# Altium schematic symbol library WR-BHD.SchLib: 220 symbols (part 1 of 5)
Pins are listed as number, name and electrical type; pins without a type are passive.

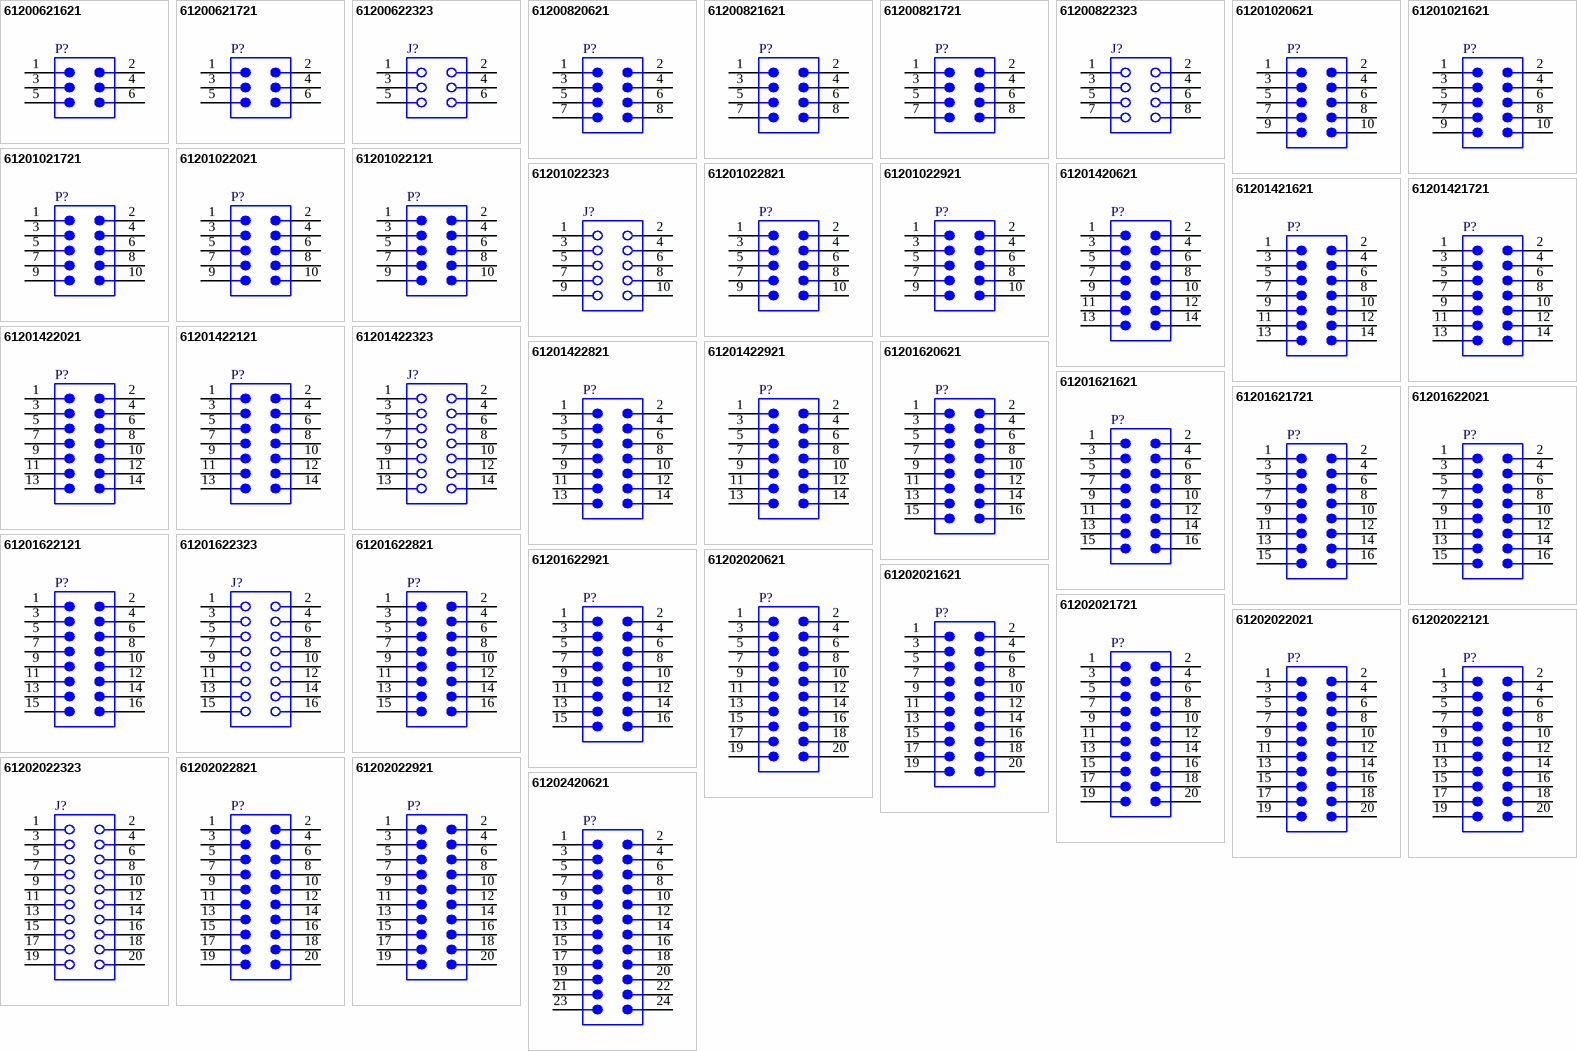
[diagram p0: symbols 61200621621 to 61202420621]

## 61200621621
designator P?  (value not drawn)
WR-BHD Male Box Header, THT Straight, pitch 2.54 mm, 2 Rows, 6 Pins; Manufacturer: Wurth Elektronik; Contact Resistance: 20 mΩ; Insulation Resistance: 1000 MΩ; Pitch: 2.54 mm; Rated Current: 3 A; Working Voltage: 250 V; Withstanding Voltage: 500 V; Manufacturer Part Number: 61200621621; Category: Wire-to-Board Connector; Connectors.Match Code: WR-BHD; ComponentLink1Description: Website Link; ComponentLink1URL: https://www.we-online.com/redexpert/article/61200621621?ad; ComponentLink2Description: Datasheet Link; ComponentLink2URL: https://www.we-online.com/redexpert/spec/61200621621?ad; Mount: Through Hole; Min Operating Temperature: -40 °C; Max Operating Temperature: 105 °C; Packaging: Tray; Length: 15.28 mm; Width: 9.1 mm; Height: 9.1 mm; Gender: Male; Number of Pins: 6; Number of Rows: 2; Orientation: Straight
footprint 61200621621
pins: 1, 2, 3, 4, 5, 6

## 61200621721
designator P?  (value not drawn)
WR-BHD Male Box Header, THT Right Angle, pitch 2.54 mm, 2 Rows, 6 Pins; Manufacturer: Wurth Elektronik; Contact Resistance: 20 mΩ; Insulation Resistance: 1000 MΩ; Pitch: 2.54 mm; Rated Current: 3 A; Working Voltage: 250 V; Withstanding Voltage: 500 V; Manufacturer Part Number: 61200621721; Category: Wire-to-Board Connector; Connectors.Match Code: WR-BHD; ComponentLink1Description: Website Link; ComponentLink1URL: https://www.we-online.com/redexpert/article/61200621721?ad; ComponentLink2Description: Datasheet Link; ComponentLink2URL: https://www.we-online.com/redexpert/spec/61200621721?ad; Mount: Through Hole; Min Operating Temperature: -40 °C; Max Operating Temperature: 105 °C; Packaging: Tray; Length: 15.28 mm; Width: 13.23 mm; Height: 9.1 mm; Gender: Male; Number of Pins: 6; Number of Rows: 2; Orientation: Right Angle
footprint 61200621721
pins: 1, 2, 3, 4, 5, 6

## 61200622323
designator J?  (value not drawn)
WR-BHD Female Box Header, THT Straight, pitch 2.54 mm, 2 Rows, 6 Pins; Manufacturer: Wurth Elektronik; Contact Resistance: 20 mΩ; Insulation Resistance: 1000 MΩ; Pitch: 2.54 mm; Rated Current: 1 A; Working Voltage: 250 V; Withstanding Voltage: 500 V; Manufacturer Part Number: 61200622323; Category: Wire-to-Board Connector; Connectors.Match Code: WR-BHD; ComponentLink1Description: Website Link; ComponentLink1URL: https://www.we-online.com/redexpert/article/61200622323?ad; ComponentLink2Description: Datasheet Link; ComponentLink2URL: https://www.we-online.com/redexpert/spec/61200622323?ad; Mount: Through Hole; Min Operating Temperature: -40 °C; Max Operating Temperature: 105 °C; Packaging: Tray; Length: 13.07 mm; Width: 6 mm; Height: 7.3 mm; Gender: Female; Number of Pins: 6; Number of Rows: 2; Orientation: Straight
footprint 61200622323
pins: 1, 2, 3, 4, 5, 6

## 61200820621
designator P?  (value not drawn)
WR-BHD Male Box Header, SMT Straight, pitch 2.54 mm, 2 Rows, 8 Pins; Manufacturer: Wurth Elektronik; Contact Resistance: 20 mΩ; Insulation Resistance: 1000 MΩ; Pitch: 2.54 mm; Rated Current: 3 A; Working Voltage: 250 V; Withstanding Voltage: 500 V; Manufacturer Part Number: 61200820621; Category: Wire-to-Board Connector; Connectors.Match Code: WR-BHD; ComponentLink1Description: Website Link; ComponentLink1URL: https://www.we-online.com/redexpert/article/61200820621?ad; ComponentLink2Description: Datasheet Link; ComponentLink2URL: https://www.we-online.com/redexpert/spec/61200820621?ad; Mount: Surface Mount; Min Operating Temperature: -40 °C; Max Operating Temperature: 125 °C; Packaging: Tube; Length: 17.66 mm; Width: 8.8 mm; Height: 9.1 mm; Gender: Male; Number of Pins: 8; Number of Rows: 2; Orientation: Straight
footprint 61200820621
pins: 1, 2, 3, 4, 5, 6, 7, 8

## 61200821621
designator P?  (value not drawn)
WR-BHD Male Box Header, THT Straight, pitch 2.54 mm, 2 Rows, 8 Pins; Manufacturer: Wurth Elektronik; Contact Resistance: 20 mΩ; Insulation Resistance: 1000 MΩ; Pitch: 2.54 mm; Rated Current: 3 A; Working Voltage: 250 V; Withstanding Voltage: 500 V; Manufacturer Part Number: 61200821621; Category: Wire-to-Board Connector; Connectors.Match Code: WR-BHD; ComponentLink1Description: Website Link; ComponentLink1URL: https://www.we-online.com/redexpert/article/61200821621?ad; ComponentLink2Description: Datasheet Link; ComponentLink2URL: https://www.we-online.com/redexpert/spec/61200821621?ad; Mount: Through Hole; Min Operating Temperature: -40 °C; Max Operating Temperature: 105 °C; Packaging: Tray; Length: 17.82 mm; Width: 9.1 mm; Height: 9.1 mm; Gender: Male; Number of Pins: 8; Number of Rows: 2; Orientation: Straight
footprint 61200821621
pins: 1, 2, 3, 4, 5, 6, 7, 8

## 61200821721
designator P?  (value not drawn)
WR-BHD Male Box Header, THT Right Angle, pitch 2.54 mm, 2 Rows, 8 Pins; Manufacturer: Wurth Elektronik; Contact Resistance: 20 mΩ; Insulation Resistance: 1000 MΩ; Pitch: 2.54 mm; Rated Current: 3 A; Working Voltage: 250 V; Withstanding Voltage: 500 V; Manufacturer Part Number: 61200821721; Category: Wire-to-Board Connector; Connectors.Match Code: WR-BHD; ComponentLink1Description: Website Link; ComponentLink1URL: https://www.we-online.com/redexpert/article/61200821721?ad; ComponentLink2Description: Datasheet Link; ComponentLink2URL: https://www.we-online.com/redexpert/spec/61200821721?ad; Mount: Through Hole; Min Operating Temperature: -40 °C; Max Operating Temperature: 105 °C; Packaging: Tray; Length: 17.82 mm; Width: 13.23 mm; Height: 9.1 mm; Gender: Male; Number of Pins: 8; Number of Rows: 2; Orientation: Right Angle
footprint 61200821721
pins: 1, 2, 3, 4, 5, 6, 7, 8

## 61200822323
designator J?  (value not drawn)
WR-BHD Female Box Header, THT Straight, pitch 2.54 mm, 2 Rows, 8 Pins; Manufacturer: Wurth Elektronik; Contact Resistance: 20 mΩ; Insulation Resistance: 1000 MΩ; Pitch: 2.54 mm; Rated Current: 1 A; Working Voltage: 250 V; Withstanding Voltage: 500 V; Manufacturer Part Number: 61200822323; Category: Wire-to-Board Connector; Connectors.Match Code: WR-BHD; ComponentLink1Description: Website Link; ComponentLink1URL: https://www.we-online.com/redexpert/article/61200822323?ad; ComponentLink2Description: Datasheet Link; ComponentLink2URL: https://www.we-online.com/redexpert/spec/61200822323?ad; Mount: Through Hole; Min Operating Temperature: -40 °C; Max Operating Temperature: 105 °C; Packaging: Tray; Length: 15.61 mm; Width: 6 mm; Height: 7.3 mm; Gender: Female; Number of Pins: 8; Number of Rows: 2; Orientation: Straight
footprint 61200822323
pins: 1, 2, 3, 4, 5, 6, 7, 8

## 61201020621
designator P?  (value not drawn)
WR-BHD Male Box Header, SMT Straight, pitch 2.54 mm, 2 Rows, 10 Pins; Manufacturer: Wurth Elektronik; Contact Resistance: 20 mΩ; Insulation Resistance: 1000 MΩ; Pitch: 2.54 mm; Rated Current: 3 A; Working Voltage: 250 V; Withstanding Voltage: 500 V; Manufacturer Part Number: 61201020621; Category: Wire-to-Board Connector; Connectors.Match Code: WR-BHD; ComponentLink1Description: Website Link; ComponentLink1URL: https://www.we-online.com/redexpert/article/61201020621?ad; ComponentLink2Description: Datasheet Link; ComponentLink2URL: https://www.we-online.com/redexpert/spec/61201020621?ad; Mount: Surface Mount; Min Operating Temperature: -40 °C; Max Operating Temperature: 125 °C; Packaging: Tube; Length: 20.2 mm; Width: 8.8 mm; Height: 9.1 mm; Gender: Male; Number of Pins: 10; Number of Rows: 2; Orientation: Straight
footprint 61201020621
pins: 1, 2, 3, 4, 5, 6, 7, 8, 9, 10

## 61201021621
designator P?  (value not drawn)
WR-BHD Male Box Header, THT Straight, pitch 2.54 mm, 2 Rows, 10 Pins; Manufacturer: Wurth Elektronik; Contact Resistance: 20 mΩ; Insulation Resistance: 1000 MΩ; Pitch: 2.54 mm; Rated Current: 3 A; Working Voltage: 250 V; Withstanding Voltage: 500 V; Manufacturer Part Number: 61201021621; Category: Wire-to-Board Connector; Connectors.Match Code: WR-BHD; ComponentLink1Description: Website Link; ComponentLink1URL: https://www.we-online.com/redexpert/article/61201021621?ad; ComponentLink2Description: Datasheet Link; ComponentLink2URL: https://www.we-online.com/redexpert/spec/61201021621?ad; Mount: Through Hole; Min Operating Temperature: -40 °C; Max Operating Temperature: 105 °C; Packaging: Tray; Length: 20.36 mm; Width: 9.1 mm; Height: 9.1 mm; Gender: Male; Number of Pins: 10; Number of Rows: 2; Orientation: Straight
footprint 61201021621
pins: 1, 2, 3, 4, 5, 6, 7, 8, 9, 10

## 61201021721
designator P?  (value not drawn)
WR-BHD Male Box Header, THT Right Angle, pitch 2.54 mm, 2 Rows, 10 Pins; Manufacturer: Wurth Elektronik; Contact Resistance: 20 mΩ; Insulation Resistance: 1000 MΩ; Pitch: 2.54 mm; Rated Current: 3 A; Working Voltage: 250 V; Withstanding Voltage: 500 V; Manufacturer Part Number: 61201021721; Category: Wire-to-Board Connector; Connectors.Match Code: WR-BHD; ComponentLink1Description: Website Link; ComponentLink1URL: https://www.we-online.com/redexpert/article/61201021721?ad; ComponentLink2Description: Datasheet Link; ComponentLink2URL: https://www.we-online.com/redexpert/spec/61201021721?ad; Mount: Through Hole; Min Operating Temperature: -40 °C; Max Operating Temperature: 105 °C; Packaging: Tray; Length: 20.36 mm; Width: 13.23 mm; Height: 9.1 mm; Gender: Male; Number of Pins: 10; Number of Rows: 2; Orientation: Right Angle
footprint 61201021721
pins: 1, 2, 3, 4, 5, 6, 7, 8, 9, 10

## 61201022021
designator P?  (value not drawn)
WR-BHD Male Box Header, THT Straight, pitch 2.54 mm, 2 Rows, 10 Pins; Manufacturer: Wurth Elektronik; Contact Resistance: 20 mΩ; Insulation Resistance: 1000 MΩ; Pitch: 2.54 mm; Rated Current: 3 A; Working Voltage: 250 V; Withstanding Voltage: 500 V; Manufacturer Part Number: 61201022021; Category: Wire-to-Board Connector; Connectors.Match Code: WR-BHD; ComponentLink1Description: Website Link; ComponentLink1URL: https://www.we-online.com/redexpert/article/61201022021?ad; ComponentLink2Description: Datasheet Link; ComponentLink2URL: https://www.we-online.com/redexpert/spec/61201022021?ad; Mount: Through Hole; Min Operating Temperature: -40 °C; Max Operating Temperature: 105 °C; Packaging: Tray; Length: 32.2 mm; Width: 8.3 mm; Height: 24.5 mm; Gender: Male; Number of Pins: 10; Number of Rows: 2; Orientation: Straight
footprint 61201022021
pins: 1, 2, 3, 4, 5, 6, 7, 8, 9, 10

## 61201022121
designator P?  (value not drawn)
WR-BHD Male Box Header, THT Right Angle, pitch 2.54 mm, 2 Rows, 10 Pins; Manufacturer: Wurth Elektronik; Contact Resistance: 20 mΩ; Insulation Resistance: 1000 MΩ; Pitch: 2.54 mm; Rated Current: 3 A; Working Voltage: 250 V; Withstanding Voltage: 500 V; Manufacturer Part Number: 61201022121; Category: Wire-to-Board Connector; Connectors.Match Code: WR-BHD; ComponentLink1Description: Website Link; ComponentLink1URL: https://www.we-online.com/redexpert/article/61201022121?ad; ComponentLink2Description: Datasheet Link; ComponentLink2URL: https://www.we-online.com/redexpert/spec/61201022121?ad; Mount: Through Hole; Min Operating Temperature: -40 °C; Max Operating Temperature: 105 °C; Packaging: Tray; Length: 32.2 mm; Width: 24.5 mm; Height: 8.3 mm; Gender: Male; Number of Pins: 10; Number of Rows: 2; Orientation: Right Angle
footprint 61201022121
pins: 1, 2, 3, 4, 5, 6, 7, 8, 9, 10

## 61201022323
designator J?  (value not drawn)
WR-BHD Female Box Header, THT Straight, pitch 2.54 mm, 2 Rows, 10 Pins; Manufacturer: Wurth Elektronik; Contact Resistance: 20 mΩ; Insulation Resistance: 1000 MΩ; Pitch: 2.54 mm; Rated Current: 1 A; Working Voltage: 250 V; Withstanding Voltage: 500 V; Manufacturer Part Number: 61201022323; Category: Wire-to-Board Connector; Connectors.Match Code: WR-BHD; ComponentLink1Description: Website Link; ComponentLink1URL: https://www.we-online.com/redexpert/article/61201022323?ad; ComponentLink2Description: Datasheet Link; ComponentLink2URL: https://www.we-online.com/redexpert/spec/61201022323?ad; Mount: Through Hole; Min Operating Temperature: -40 °C; Max Operating Temperature: 105 °C; Packaging: Tray; Length: 18.15 mm; Width: 6 mm; Height: 7.3 mm; Gender: Female; Number of Pins: 10; Number of Rows: 2; Orientation: Straight
footprint 61201022323
pins: 1, 2, 3, 4, 5, 6, 7, 8, 9, 10

## 61201022821
designator P?  (value not drawn)
WR-BHD Male Box Header, THT Straight, pitch 2.54 mm, 2 Rows, 10 Pins; Manufacturer: Wurth Elektronik; Contact Resistance: 20 mΩ; Insulation Resistance: 1000 MΩ; Pitch: 2.54 mm; Rated Current: 3 A; Working Voltage: 250 V; Withstanding Voltage: 500 V; Manufacturer Part Number: 61201022821; Category: Wire-to-Board Connector; Connectors.Match Code: WR-BHD; ComponentLink1Description: Website Link; ComponentLink1URL: https://www.we-online.com/redexpert/article/61201022821?ad; ComponentLink2Description: Datasheet Link; ComponentLink2URL: https://www.we-online.com/redexpert/spec/61201022821?ad; Mount: Through Hole; Min Operating Temperature: -40 °C; Max Operating Temperature: 105 °C; Packaging: Tray; Length: 32.2 mm; Width: 8.3 mm; Height: 27.8 mm; Gender: Male; Number of Pins: 10; Number of Rows: 2; Orientation: Straight
footprint 61201022821
pins: 1, 2, 3, 4, 5, 6, 7, 8, 9, 10

## 61201022921
designator P?  (value not drawn)
WR-BHD Male Box Header, THT Right Angle, pitch 2.54 mm, 2 Rows, 10 Pins; Manufacturer: Wurth Elektronik; Contact Resistance: 20 mΩ; Insulation Resistance: 1000 MΩ; Pitch: 2.54 mm; Rated Current: 3 A; Working Voltage: 250 V; Withstanding Voltage: 500 V; Manufacturer Part Number: 61201022921; Category: Wire-to-Board Connector; Connectors.Match Code: WR-BHD; ComponentLink1Description: Website Link; ComponentLink1URL: https://www.we-online.com/redexpert/article/61201022921?ad; ComponentLink2Description: Datasheet Link; ComponentLink2URL: https://www.we-online.com/redexpert/spec/61201022921?ad; Mount: Through Hole; Min Operating Temperature: -40 °C; Max Operating Temperature: 105 °C; Packaging: Tray; Length: 32.2 mm; Width: 27.8 mm; Height: 8.3 mm; Gender: Male; Number of Pins: 10; Number of Rows: 2; Orientation: Right Angle
footprint 61201022921
pins: 1, 2, 3, 4, 5, 6, 7, 8, 9, 10

## 61201420621
designator P?  (value not drawn)
WR-BHD Male Box Header, SMT Straight, pitch 2.54 mm, 2 Rows, 14 Pins; Manufacturer: Wurth Elektronik; Contact Resistance: 20 mΩ; Insulation Resistance: 1000 MΩ; Pitch: 2.54 mm; Rated Current: 3 A; Working Voltage: 250 V; Withstanding Voltage: 500 V; Manufacturer Part Number: 61201420621; Category: Wire-to-Board Connector; Connectors.Match Code: WR-BHD; ComponentLink1Description: Website Link; ComponentLink1URL: https://www.we-online.com/redexpert/article/61201420621?ad; ComponentLink2Description: Datasheet Link; ComponentLink2URL: https://www.we-online.com/redexpert/spec/61201420621?ad; Mount: Surface Mount; Min Operating Temperature: -40 °C; Max Operating Temperature: 125 °C; Packaging: Tube; Length: 25.28 mm; Width: 8.8 mm; Height: 9.1 mm; Gender: Male; Number of Pins: 14; Number of Rows: 2; Orientation: Straight
footprint 61201420621
pins: 1, 2, 3, 4, 5, 6, 7, 8, 9, 10, 11, 12, 13, 14

## 61201421621
designator P?  (value not drawn)
WR-BHD Male Box Header, THT Straight, pitch 2.54 mm, 2 Rows, 14 Pins; Manufacturer: Wurth Elektronik; Contact Resistance: 20 mΩ; Insulation Resistance: 1000 MΩ; Pitch: 2.54 mm; Rated Current: 3 A; Working Voltage: 250 V; Withstanding Voltage: 500 V; Manufacturer Part Number: 61201421621; Category: Wire-to-Board Connector; Connectors.Match Code: WR-BHD; ComponentLink1Description: Website Link; ComponentLink1URL: https://www.we-online.com/redexpert/article/61201421621?ad; ComponentLink2Description: Datasheet Link; ComponentLink2URL: https://www.we-online.com/redexpert/spec/61201421621?ad; Mount: Through Hole; Min Operating Temperature: -40 °C; Max Operating Temperature: 105 °C; Packaging: Tray; Length: 25.44 mm; Width: 9.1 mm; Height: 9.1 mm; Gender: Male; Number of Pins: 14; Number of Rows: 2; Orientation: Straight
footprint 61201421621
pins: 1, 2, 3, 4, 5, 6, 7, 8, 9, 10, 11, 12, 13, 14

## 61201421721
designator P?  (value not drawn)
WR-BHD Male Box Header, THT Right Angle, pitch 2.54 mm, 2 Rows, 14 Pins; Manufacturer: Wurth Elektronik; Contact Resistance: 20 mΩ; Insulation Resistance: 1000 MΩ; Pitch: 2.54 mm; Rated Current: 3 A; Working Voltage: 250 V; Withstanding Voltage: 500 V; Manufacturer Part Number: 61201421721; Category: Wire-to-Board Connector; Connectors.Match Code: WR-BHD; ComponentLink1Description: Website Link; ComponentLink1URL: https://www.we-online.com/redexpert/article/61201421721?ad; ComponentLink2Description: Datasheet Link; ComponentLink2URL: https://www.we-online.com/redexpert/spec/61201421721?ad; Mount: Through Hole; Min Operating Temperature: -40 °C; Max Operating Temperature: 105 °C; Packaging: Tray; Length: 25.44 mm; Width: 13.23 mm; Height: 9.1 mm; Gender: Male; Number of Pins: 14; Number of Rows: 2; Orientation: Right Angle
footprint 61201421721
pins: 1, 2, 3, 4, 5, 6, 7, 8, 9, 10, 11, 12, 13, 14

## 61201422021
designator P?  (value not drawn)
WR-BHD Male Box Header, THT Straight, pitch 2.54 mm, 2 Rows, 14 Pins; Manufacturer: Wurth Elektronik; Contact Resistance: 20 mΩ; Insulation Resistance: 1000 MΩ; Pitch: 2.54 mm; Rated Current: 3 A; Working Voltage: 250 V; Withstanding Voltage: 500 V; Manufacturer Part Number: 61201422021; Category: Wire-to-Board Connector; Connectors.Match Code: WR-BHD; ComponentLink1Description: Website Link; ComponentLink1URL: https://www.we-online.com/redexpert/article/61201422021?ad; ComponentLink2Description: Datasheet Link; ComponentLink2URL: https://www.we-online.com/redexpert/spec/61201422021?ad; Mount: Through Hole; Min Operating Temperature: -40 °C; Max Operating Temperature: 105 °C; Packaging: Tray; Length: 37.28 mm; Width: 8.3 mm; Height: 24.5 mm; Gender: Male; Number of Pins: 14; Number of Rows: 2; Orientation: Straight
footprint 61201422021
pins: 1, 2, 3, 4, 5, 6, 7, 8, 9, 10, 11, 12, 13, 14

## 61201422121
designator P?  (value not drawn)
WR-BHD Male Box Header, THT Right Angle, pitch 2.54 mm, 2 Rows, 14 Pins; Manufacturer: Wurth Elektronik; Contact Resistance: 20 mΩ; Insulation Resistance: 1000 MΩ; Pitch: 2.54 mm; Rated Current: 3 A; Working Voltage: 250 V; Withstanding Voltage: 500 V; Manufacturer Part Number: 61201422121; Category: Wire-to-Board Connector; Connectors.Match Code: WR-BHD; ComponentLink1Description: Website Link; ComponentLink1URL: https://www.we-online.com/redexpert/article/61201422121?ad; ComponentLink2Description: Datasheet Link; ComponentLink2URL: https://www.we-online.com/redexpert/spec/61201422121?ad; Mount: Through Hole; Min Operating Temperature: -40 °C; Max Operating Temperature: 105 °C; Packaging: Tray; Length: 37.28 mm; Width: 24.5 mm; Height: 8.3 mm; Gender: Male; Number of Pins: 14; Number of Rows: 2; Orientation: Right Angle
footprint 61201422121
pins: 1, 2, 3, 4, 5, 6, 7, 8, 9, 10, 11, 12, 13, 14

## 61201422323
designator J?  (value not drawn)
WR-BHD Female Box Header, THT Straight, pitch 2.54 mm, 2 Rows, 14 Pins; Manufacturer: Wurth Elektronik; Contact Resistance: 20 mΩ; Insulation Resistance: 1000 MΩ; Pitch: 2.54 mm; Rated Current: 1 A; Working Voltage: 250 V; Withstanding Voltage: 500 V; Manufacturer Part Number: 61201422323; Category: Wire-to-Board Connector; Connectors.Match Code: WR-BHD; ComponentLink1Description: Website Link; ComponentLink1URL: https://www.we-online.com/redexpert/article/61201422323?ad; ComponentLink2Description: Datasheet Link; ComponentLink2URL: https://www.we-online.com/redexpert/spec/61201422323?ad; Mount: Through Hole; Min Operating Temperature: -40 °C; Max Operating Temperature: 105 °C; Packaging: Tray; Length: 23.23 mm; Width: 6 mm; Height: 7.3 mm; Gender: Female; Number of Pins: 14; Number of Rows: 2; Orientation: Straight
footprint 61201422323
pins: 1, 2, 3, 4, 5, 6, 7, 8, 9, 10, 11, 12, 13, 14

## 61201422821
designator P?  (value not drawn)
WR-BHD Male Box Header, THT Straight, pitch 2.54 mm, 2 Rows, 14 Pins; Manufacturer: Wurth Elektronik; Contact Resistance: 20 mΩ; Insulation Resistance: 1000 MΩ; Pitch: 2.54 mm; Rated Current: 3 A; Working Voltage: 250 V; Withstanding Voltage: 500 V; Manufacturer Part Number: 61201422821; Category: Wire-to-Board Connector; Connectors.Match Code: WR-BHD; ComponentLink1Description: Website Link; ComponentLink1URL: https://www.we-online.com/redexpert/article/61201422821?ad; ComponentLink2Description: Datasheet Link; ComponentLink2URL: https://www.we-online.com/redexpert/spec/61201422821?ad; Mount: Through Hole; Min Operating Temperature: -40 °C; Max Operating Temperature: 105 °C; Packaging: Tray; Length: 37.28 mm; Width: 8.3 mm; Height: 27.8 mm; Gender: Male; Number of Pins: 14; Number of Rows: 2; Orientation: Straight
footprint 61201422821
pins: 1, 2, 3, 4, 5, 6, 7, 8, 9, 10, 11, 12, 13, 14

## 61201422921
designator P?  (value not drawn)
WR-BHD Male Box Header, THT Right Angle, pitch 2.54 mm, 2 Rows, 14 Pins; Manufacturer: Wurth Elektronik; Contact Resistance: 20 mΩ; Insulation Resistance: 1000 MΩ; Pitch: 2.54 mm; Rated Current: 3 A; Working Voltage: 250 V; Withstanding Voltage: 500 V; Manufacturer Part Number: 61201422921; Category: Wire-to-Board Connector; Connectors.Match Code: WR-BHD; ComponentLink1Description: Website Link; ComponentLink1URL: https://www.we-online.com/redexpert/article/61201422921?ad; ComponentLink2Description: Datasheet Link; ComponentLink2URL: https://www.we-online.com/redexpert/spec/61201422921?ad; Mount: Through Hole; Min Operating Temperature: -40 °C; Max Operating Temperature: 105 °C; Packaging: Tray; Length: 32.2 mm; Width: 27.8 mm; Height: 8.3 mm; Gender: Male; Number of Pins: 14; Number of Rows: 2; Orientation: Right Angle
footprint 61201422921
pins: 1, 2, 3, 4, 5, 6, 7, 8, 9, 10, 11, 12, 13, 14

## 61201620621
designator P?  (value not drawn)
WR-BHD Male Box Header, SMT Straight, pitch 2.54 mm, 2 Rows, 16 Pins; Manufacturer: Wurth Elektronik; Contact Resistance: 20 mΩ; Insulation Resistance: 1000 MΩ; Pitch: 2.54 mm; Rated Current: 3 A; Working Voltage: 250 V; Withstanding Voltage: 500 V; Manufacturer Part Number: 61201620621; Category: Wire-to-Board Connector; Connectors.Match Code: WR-BHD; ComponentLink1Description: Website Link; ComponentLink1URL: https://www.we-online.com/redexpert/article/61201620621?ad; ComponentLink2Description: Datasheet Link; ComponentLink2URL: https://www.we-online.com/redexpert/spec/61201620621?ad; Mount: Surface Mount; Min Operating Temperature: -40 °C; Max Operating Temperature: 125 °C; Packaging: Tube; Length: 27.82 mm; Width: 8.8 mm; Height: 9.1 mm; Gender: Male; Number of Pins: 16; Number of Rows: 2; Orientation: Straight
footprint 61201620621
pins: 1, 2, 3, 4, 5, 6, 7, 8, 9, 10, 11, 12, 13, 14, 15, 16

## 61201621621
designator P?  (value not drawn)
WR-BHD Male Box Header, THT Straight, pitch 2.54 mm, 2 Rows, 16 Pins; Manufacturer: Wurth Elektronik; Contact Resistance: 20 mΩ; Insulation Resistance: 1000 MΩ; Pitch: 2.54 mm; Rated Current: 3 A; Working Voltage: 250 V; Withstanding Voltage: 500 V; Manufacturer Part Number: 61201621621; Category: Wire-to-Board Connector; Connectors.Match Code: WR-BHD; ComponentLink1Description: Website Link; ComponentLink1URL: https://www.we-online.com/redexpert/article/61201621621?ad; ComponentLink2Description: Datasheet Link; ComponentLink2URL: https://www.we-online.com/redexpert/spec/61201621621?ad; Mount: Through Hole; Min Operating Temperature: -40 °C; Max Operating Temperature: 105 °C; Packaging: Tray; Length: 27.98 mm; Width: 9.1 mm; Height: 9.1 mm; Gender: Male; Number of Pins: 16; Number of Rows: 2; Orientation: Straight
footprint 61201621621
pins: 1, 2, 3, 4, 5, 6, 7, 8, 9, 10, 11, 12, 13, 14, 15, 16

## 61201621721
designator P?  (value not drawn)
WR-BHD Male Box Header, THT Right Angle, pitch 2.54 mm, 2 Rows, 16 Pins; Manufacturer: Wurth Elektronik; Contact Resistance: 20 mΩ; Insulation Resistance: 1000 MΩ; Pitch: 2.54 mm; Rated Current: 3 A; Working Voltage: 250 V; Withstanding Voltage: 500 V; Manufacturer Part Number: 61201621721; Category: Wire-to-Board Connector; Connectors.Match Code: WR-BHD; ComponentLink1Description: Website Link; ComponentLink1URL: https://www.we-online.com/redexpert/article/61201621721?ad; ComponentLink2Description: Datasheet Link; ComponentLink2URL: https://www.we-online.com/redexpert/spec/61201621721?ad; Mount: Through Hole; Min Operating Temperature: -40 °C; Max Operating Temperature: 105 °C; Packaging: Tray; Length: 27.98 mm; Width: 13.23 mm; Height: 9.1 mm; Gender: Male; Number of Pins: 16; Number of Rows: 2; Orientation: Right Angle
footprint 61201621721
pins: 1, 2, 3, 4, 5, 6, 7, 8, 9, 10, 11, 12, 13, 14, 15, 16

## 61201622021
designator P?  (value not drawn)
WR-BHD Male Box Header, THT Straight, pitch 2.54 mm, 2 Rows, 16 Pins; Manufacturer: Wurth Elektronik; Contact Resistance: 20 mΩ; Insulation Resistance: 1000 MΩ; Pitch: 2.54 mm; Rated Current: 3 A; Working Voltage: 250 V; Withstanding Voltage: 500 V; Manufacturer Part Number: 61201622021; Category: Wire-to-Board Connector; Connectors.Match Code: WR-BHD; ComponentLink1Description: Website Link; ComponentLink1URL: https://www.we-online.com/redexpert/article/61201622021?ad; ComponentLink2Description: Datasheet Link; ComponentLink2URL: https://www.we-online.com/redexpert/spec/61201622021?ad; Mount: Through Hole; Min Operating Temperature: -40 °C; Max Operating Temperature: 105 °C; Packaging: Tray; Length: 39.82 mm; Width: 8.3 mm; Height: 24.5 mm; Gender: Male; Number of Pins: 16; Number of Rows: 2; Orientation: Straight
footprint 61201622021
pins: 1, 2, 3, 4, 5, 6, 7, 8, 9, 10, 11, 12, 13, 14, 15, 16

## 61201622121
designator P?  (value not drawn)
WR-BHD Male Box Header, THT Right Angle, pitch 2.54 mm, 2 Rows, 16 Pins; Manufacturer: Wurth Elektronik; Contact Resistance: 20 mΩ; Insulation Resistance: 1000 MΩ; Pitch: 2.54 mm; Rated Current: 3 A; Working Voltage: 250 V; Withstanding Voltage: 500 V; Manufacturer Part Number: 61201622121; Category: Wire-to-Board Connector; Connectors.Match Code: WR-BHD; ComponentLink1Description: Website Link; ComponentLink1URL: https://www.we-online.com/redexpert/article/61201622121?ad; ComponentLink2Description: Datasheet Link; ComponentLink2URL: https://www.we-online.com/redexpert/spec/61201622121?ad; Mount: Through Hole; Min Operating Temperature: -40 °C; Max Operating Temperature: 105 °C; Packaging: Tray; Length: 39.82 mm; Width: 24.5 mm; Height: 8.3 mm; Gender: Male; Number of Pins: 16; Number of Rows: 2; Orientation: Right Angle
footprint 61201622121
pins: 1, 2, 3, 4, 5, 6, 7, 8, 9, 10, 11, 12, 13, 14, 15, 16

## 61201622323
designator J?  (value not drawn)
WR-BHD Female Box Header, THT Straight, pitch 2.54 mm, 2 Rows, 16 Pins; Manufacturer: Wurth Elektronik; Contact Resistance: 20 mΩ; Insulation Resistance: 1000 MΩ; Pitch: 2.54 mm; Rated Current: 1 A; Working Voltage: 250 V; Withstanding Voltage: 500 V; Manufacturer Part Number: 61201622323; Category: Wire-to-Board Connector; Connectors.Match Code: WR-BHD; ComponentLink1Description: Website Link; ComponentLink1URL: https://www.we-online.com/redexpert/article/61201622323?ad; ComponentLink2Description: Datasheet Link; ComponentLink2URL: https://www.we-online.com/redexpert/spec/61201622323?ad; Mount: Through Hole; Min Operating Temperature: -40 °C; Max Operating Temperature: 105 °C; Packaging: Tray; Length: 25.77 mm; Width: 6 mm; Height: 7.3 mm; Gender: Female; Number of Pins: 16; Number of Rows: 2; Orientation: Straight
footprint 61201622323
pins: 1, 2, 3, 4, 5, 6, 7, 8, 9, 10, 11, 12, 13, 14, 15, 16

## 61201622821
designator P?  (value not drawn)
WR-BHD Male Box Header, THT Straight, pitch 2.54 mm, 2 Rows, 16 Pins; Manufacturer: Wurth Elektronik; Contact Resistance: 20 mΩ; Insulation Resistance: 1000 MΩ; Pitch: 2.54 mm; Rated Current: 3 A; Working Voltage: 250 V; Withstanding Voltage: 500 V; Manufacturer Part Number: 61201622821; Category: Wire-to-Board Connector; Connectors.Match Code: WR-BHD; ComponentLink1Description: Website Link; ComponentLink1URL: https://www.we-online.com/redexpert/article/61201622821?ad; ComponentLink2Description: Datasheet Link; ComponentLink2URL: https://www.we-online.com/redexpert/spec/61201622821?ad; Mount: Through Hole; Min Operating Temperature: -40 °C; Max Operating Temperature: 105 °C; Packaging: Tray; Length: 39.82 mm; Width: 8.3 mm; Height: 27.8 mm; Gender: Male; Number of Pins: 16; Number of Rows: 2; Orientation: Straight
footprint 61201622821
pins: 1, 2, 3, 4, 5, 6, 7, 8, 9, 10, 11, 12, 13, 14, 15, 16

## 61201622921
designator P?  (value not drawn)
WR-BHD Male Box Header, THT Right Angle, pitch 2.54 mm, 2 Rows, 16 Pins; Manufacturer: Wurth Elektronik; Contact Resistance: 20 mΩ; Insulation Resistance: 1000 MΩ; Pitch: 2.54 mm; Rated Current: 3 A; Working Voltage: 250 V; Withstanding Voltage: 500 V; Manufacturer Part Number: 61201622921; Category: Wire-to-Board Connector; Connectors.Match Code: WR-BHD; ComponentLink1Description: Website Link; ComponentLink1URL: https://www.we-online.com/redexpert/article/61201622921?ad; ComponentLink2Description: Datasheet Link; ComponentLink2URL: https://www.we-online.com/redexpert/spec/61201622921?ad; Mount: Through Hole; Min Operating Temperature: -40 °C; Max Operating Temperature: 105 °C; Packaging: Tray; Length: 39.82 mm; Width: 27.8 mm; Height: 8.3 mm; Gender: Male; Number of Pins: 16; Number of Rows: 2; Orientation: Right Angle
footprint 61201622921
pins: 1, 2, 3, 4, 5, 6, 7, 8, 9, 10, 11, 12, 13, 14, 15, 16

## 61202020621
designator P?  (value not drawn)
WR-BHD Male Box Header, SMT Straight, pitch 2.54 mm, 2 Rows, 20 Pins; Manufacturer: Wurth Elektronik; Contact Resistance: 20 mΩ; Insulation Resistance: 1000 MΩ; Pitch: 2.54 mm; Rated Current: 3 A; Working Voltage: 250 V; Withstanding Voltage: 500 V; Manufacturer Part Number: 61202020621; Category: Wire-to-Board Connector; Connectors.Match Code: WR-BHD; ComponentLink1Description: Website Link; ComponentLink1URL: https://www.we-online.com/redexpert/article/61202020621?ad; ComponentLink2Description: Datasheet Link; ComponentLink2URL: https://www.we-online.com/redexpert/spec/61202020621?ad; Mount: Surface Mount; Min Operating Temperature: -40 °C; Max Operating Temperature: 125 °C; Packaging: Tube; Length: 32.9 mm; Width: 8.8 mm; Height: 9.1 mm; Gender: Male; Number of Pins: 20; Number of Rows: 2; Orientation: Straight
footprint 61202020621
pins: 1, 2, 3, 4, 5, 6, 7, 8, 9, 10, 11, 12, 13, 14, 15, 16, 17, 18, 19, 20

## 61202021621
designator P?  (value not drawn)
WR-BHD Male Box Header, THT Straight, pitch 2.54 mm, 2 Rows, 20 Pins; Manufacturer: Wurth Elektronik; Contact Resistance: 20 mΩ; Insulation Resistance: 1000 MΩ; Pitch: 2.54 mm; Rated Current: 3 A; Working Voltage: 250 V; Withstanding Voltage: 500 V; Manufacturer Part Number: 61202021621; Category: Wire-to-Board Connector; Connectors.Match Code: WR-BHD; ComponentLink1Description: Website Link; ComponentLink1URL: https://www.we-online.com/redexpert/article/61202021621?ad; ComponentLink2Description: Datasheet Link; ComponentLink2URL: https://www.we-online.com/redexpert/spec/61202021621?ad; Mount: Through Hole; Min Operating Temperature: -40 °C; Max Operating Temperature: 105 °C; Packaging: Tray; Length: 33.06 mm; Width: 9.1 mm; Height: 9.1 mm; Gender: Male; Number of Pins: 20; Number of Rows: 2; Orientation: Straight
footprint 61202021621
pins: 1, 2, 3, 4, 5, 6, 7, 8, 9, 10, 11, 12, 13, 14, 15, 16, 17, 18, 19, 20

## 61202021721
designator P?  (value not drawn)
WR-BHD Male Box Header, THT Right Angle, pitch 2.54 mm, 2 Rows, 20 Pins; Manufacturer: Wurth Elektronik; Contact Resistance: 20 mΩ; Insulation Resistance: 1000 MΩ; Pitch: 2.54 mm; Rated Current: 3 A; Working Voltage: 250 V; Withstanding Voltage: 500 V; Manufacturer Part Number: 61202021721; Category: Wire-to-Board Connector; Connectors.Match Code: WR-BHD; ComponentLink1Description: Website Link; ComponentLink1URL: https://www.we-online.com/redexpert/article/61202021721?ad; ComponentLink2Description: Datasheet Link; ComponentLink2URL: https://www.we-online.com/redexpert/spec/61202021721?ad; Mount: Through Hole; Min Operating Temperature: -40 °C; Max Operating Temperature: 105 °C; Packaging: Tray; Length: 33.06 mm; Width: 13.23 mm; Height: 9.1 mm; Gender: Male; Number of Pins: 20; Number of Rows: 2; Orientation: Right Angle
footprint 61202021721
pins: 1, 2, 3, 4, 5, 6, 7, 8, 9, 10, 11, 12, 13, 14, 15, 16, 17, 18, 19, 20

## 61202022021
designator P?  (value not drawn)
WR-BHD Male Box Header, THT Straight, pitch 2.54 mm, 2 Rows, 20 Pins; Manufacturer: Wurth Elektronik; Contact Resistance: 20 mΩ; Insulation Resistance: 1000 MΩ; Pitch: 2.54 mm; Rated Current: 3 A; Working Voltage: 250 V; Withstanding Voltage: 500 V; Manufacturer Part Number: 61202022021; Category: Wire-to-Board Connector; Connectors.Match Code: WR-BHD; ComponentLink1Description: Website Link; ComponentLink1URL: https://www.we-online.com/redexpert/article/61202022021?ad; ComponentLink2Description: Datasheet Link; ComponentLink2URL: https://www.we-online.com/redexpert/spec/61202022021?ad; Mount: Through Hole; Min Operating Temperature: -40 °C; Max Operating Temperature: 105 °C; Packaging: Tray; Length: 44.9 mm; Width: 8.3 mm; Height: 24.5 mm; Gender: Male; Number of Pins: 20; Number of Rows: 2; Orientation: Straight
footprint 61202022021
pins: 1, 2, 3, 4, 5, 6, 7, 8, 9, 10, 11, 12, 13, 14, 15, 16, 17, 18, 19, 20

## 61202022121
designator P?  (value not drawn)
WR-BHD Male Box Header, THT Right Angle, pitch 2.54 mm, 2 Rows, 20 Pins; Manufacturer: Wurth Elektronik; Contact Resistance: 20 mΩ; Insulation Resistance: 1000 MΩ; Pitch: 2.54 mm; Rated Current: 3 A; Working Voltage: 250 V; Withstanding Voltage: 500 V; Manufacturer Part Number: 61202022121; Category: Wire-to-Board Connector; Connectors.Match Code: WR-BHD; ComponentLink1Description: Website Link; ComponentLink1URL: https://www.we-online.com/redexpert/article/61202022121?ad; ComponentLink2Description: Datasheet Link; ComponentLink2URL: https://www.we-online.com/redexpert/spec/61202022121?ad; Mount: Through Hole; Min Operating Temperature: -40 °C; Max Operating Temperature: 105 °C; Packaging: Tray; Length: 44.9 mm; Width: 24.5 mm; Height: 8.3 mm; Gender: Male; Number of Pins: 20; Number of Rows: 2; Orientation: Right Angle
footprint 61202022121
pins: 1, 2, 3, 4, 5, 6, 7, 8, 9, 10, 11, 12, 13, 14, 15, 16, 17, 18, 19, 20

## 61202022323
designator J?  (value not drawn)
WR-BHD Female Box Header, THT Straight, pitch 2.54 mm, 2 Rows, 20 Pins; Manufacturer: Wurth Elektronik; Contact Resistance: 20 mΩ; Insulation Resistance: 1000 MΩ; Pitch: 2.54 mm; Rated Current: 1 A; Working Voltage: 250 V; Withstanding Voltage: 500 V; Manufacturer Part Number: 61202022323; Category: Wire-to-Board Connector; Connectors.Match Code: WR-BHD; ComponentLink1Description: Website Link; ComponentLink1URL: https://www.we-online.com/redexpert/article/61202022323?ad; ComponentLink2Description: Datasheet Link; ComponentLink2URL: https://www.we-online.com/redexpert/spec/61202022323?ad; Mount: Through Hole; Min Operating Temperature: -40 °C; Max Operating Temperature: 105 °C; Packaging: Tray; Length: 30.85 mm; Width: 6 mm; Height: 7.3 mm; Gender: Female; Number of Pins: 20; Number of Rows: 2; Orientation: Straight
footprint 61202022323
pins: 1, 2, 3, 4, 5, 6, 7, 8, 9, 10, 11, 12, 13, 14, 15, 16, 17, 18, 19, 20

## 61202022821
designator P?  (value not drawn)
WR-BHD Male Box Header, THT Straight, pitch 2.54 mm, 2 Rows, 20 Pins; Manufacturer: Wurth Elektronik; Contact Resistance: 20 mΩ; Insulation Resistance: 1000 MΩ; Pitch: 2.54 mm; Rated Current: 3 A; Working Voltage: 250 V; Withstanding Voltage: 500 V; Manufacturer Part Number: 61202022821; Category: Wire-to-Board Connector; Connectors.Match Code: WR-BHD; ComponentLink1Description: Website Link; ComponentLink1URL: https://www.we-online.com/redexpert/article/61202022821?ad; ComponentLink2Description: Datasheet Link; ComponentLink2URL: https://www.we-online.com/redexpert/spec/61202022821?ad; Mount: Through Hole; Min Operating Temperature: -40 °C; Max Operating Temperature: 105 °C; Packaging: Tray; Length: 44.9 mm; Width: 8.3 mm; Height: 27.8 mm; Gender: Male; Number of Pins: 20; Number of Rows: 2; Orientation: Straight
footprint 61202022821
pins: 1, 2, 3, 4, 5, 6, 7, 8, 9, 10, 11, 12, 13, 14, 15, 16, 17, 18, 19, 20

## 61202022921
designator P?  (value not drawn)
WR-BHD Male Box Header, THT Right Angle, pitch 2.54 mm, 2 Rows, 20 Pins; Manufacturer: Wurth Elektronik; Contact Resistance: 20 mΩ; Insulation Resistance: 1000 MΩ; Pitch: 2.54 mm; Rated Current: 3 A; Working Voltage: 250 V; Withstanding Voltage: 500 V; Manufacturer Part Number: 61202022921; Category: Wire-to-Board Connector; Connectors.Match Code: WR-BHD; ComponentLink1Description: Website Link; ComponentLink1URL: https://www.we-online.com/redexpert/article/61202022921?ad; ComponentLink2Description: Datasheet Link; ComponentLink2URL: https://www.we-online.com/redexpert/spec/61202022921?ad; Mount: Through Hole; Min Operating Temperature: -40 °C; Max Operating Temperature: 105 °C; Packaging: Tray; Length: 44.7 mm; Width: 27.8 mm; Height: 8.3 mm; Gender: Male; Number of Pins: 20; Number of Rows: 2; Orientation: Right Angle
footprint 61202022921
pins: 1, 2, 3, 4, 5, 6, 7, 8, 9, 10, 11, 12, 13, 14, 15, 16, 17, 18, 19, 20

## 61202420621
designator P?  (value not drawn)
WR-BHD Male Box Header, SMT Straight, pitch 2.54 mm, 2 Rows, 24 Pins; Manufacturer: Wurth Elektronik; Contact Resistance: 20 mΩ; Insulation Resistance: 1000 MΩ; Pitch: 2.54 mm; Rated Current: 3 A; Working Voltage: 250 V; Withstanding Voltage: 500 V; Manufacturer Part Number: 61202420621; Category: Wire-to-Board Connector; Connectors.Match Code: WR-BHD; ComponentLink1Description: Website Link; ComponentLink1URL: https://www.we-online.com/redexpert/article/61202420621?ad; ComponentLink2Description: Datasheet Link; ComponentLink2URL: https://www.we-online.com/redexpert/spec/61202420621?ad; Mount: Surface Mount; Min Operating Temperature: -40 °C; Max Operating Temperature: 125 °C; Packaging: Tube; Length: 37.98 mm; Width: 8.8 mm; Height: 9.1 mm; Gender: Male; Number of Pins: 24; Number of Rows: 2; Orientation: Straight
footprint 61202420621
pins: 1, 2, 3, 4, 5, 6, 7, 8, 9, 10, 11, 12, 13, 14, 15, 16, 17, 18, 19, 20, 21, 22, 23, 24

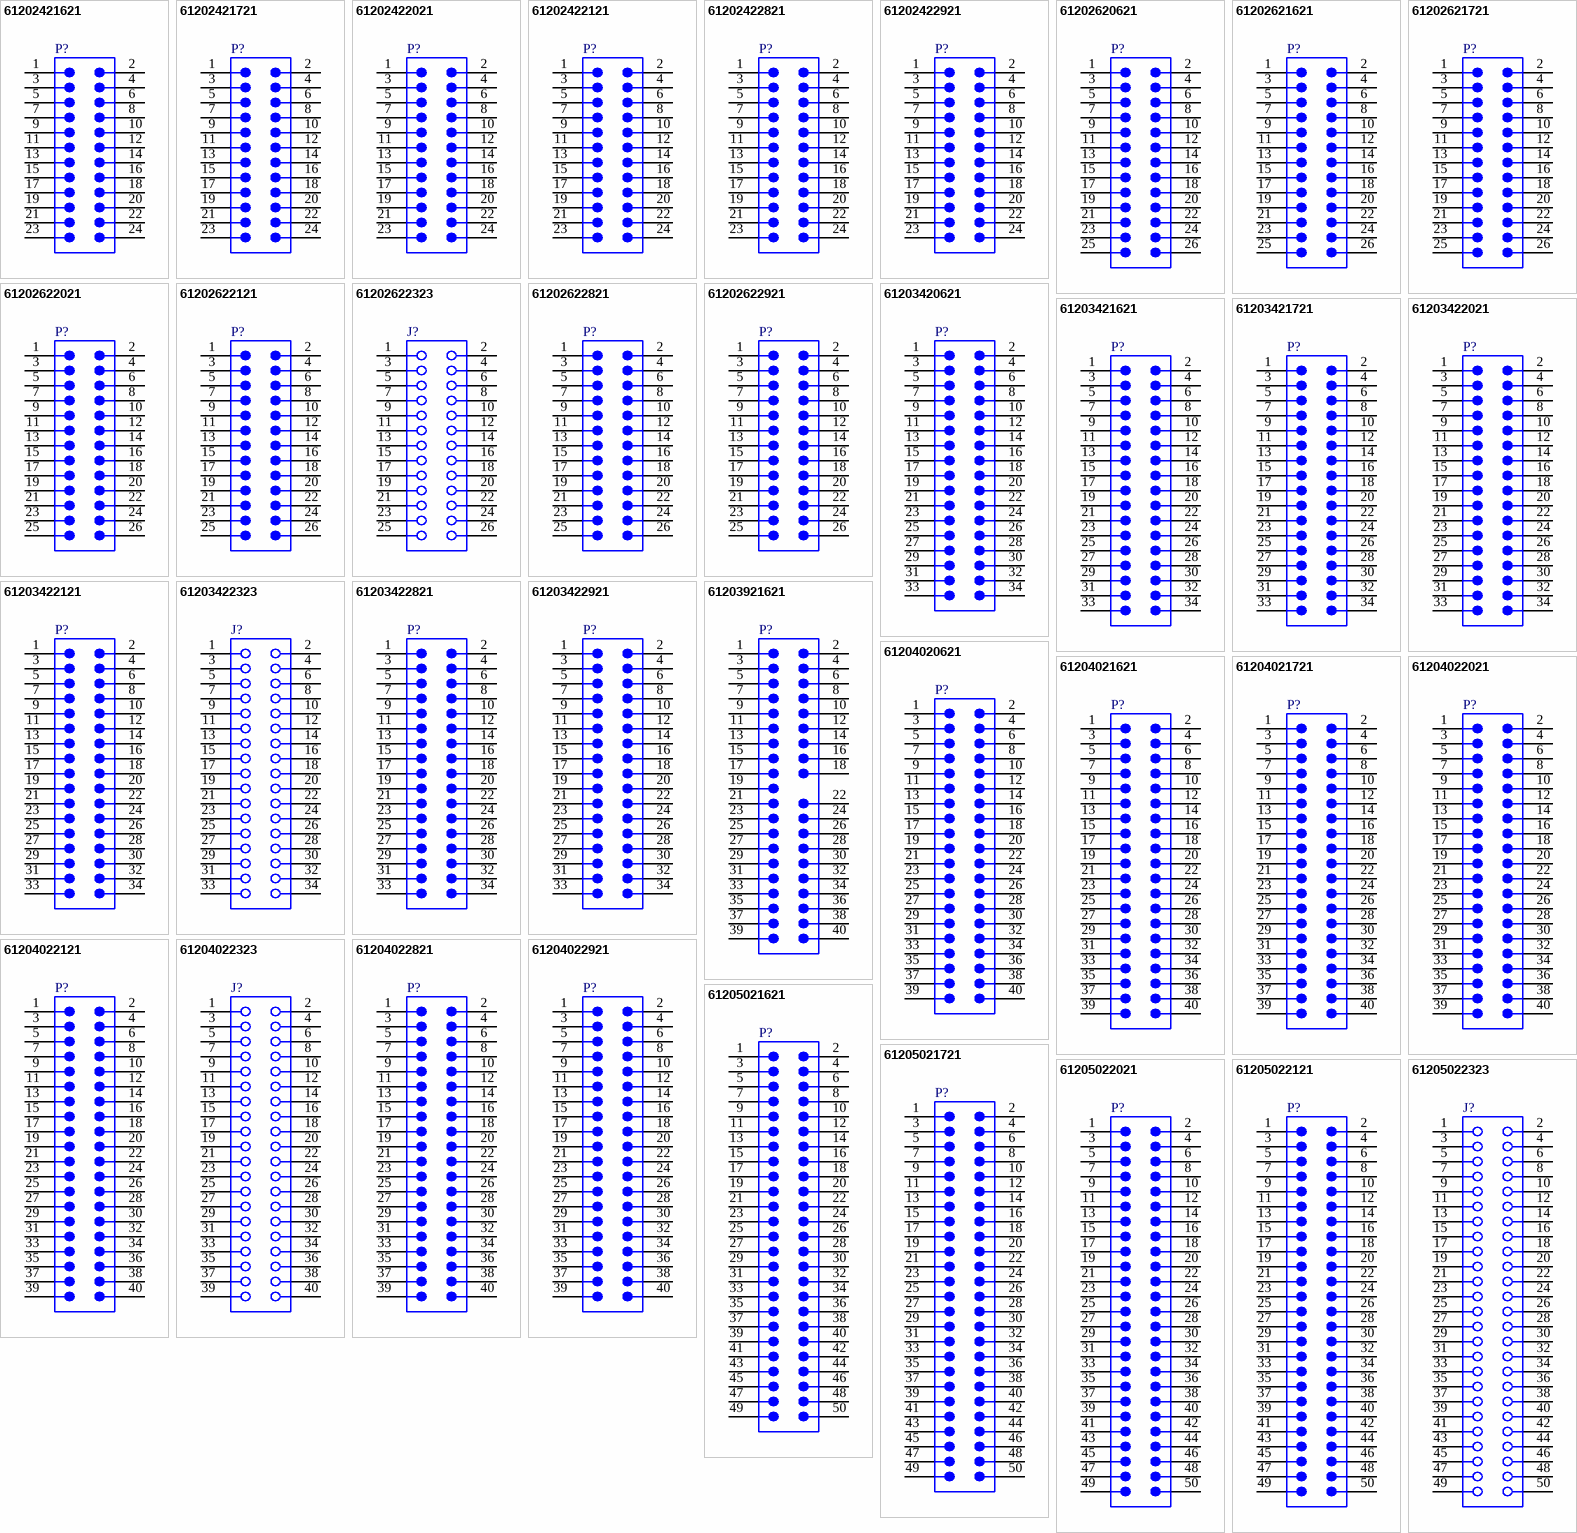
[diagram p1: symbols 61202421621 to 61205022323]

## 61202421621
designator P?  (value not drawn)
WR-BHD Male Box Header, THT Straight, pitch 2.54 mm, 2 Rows, 24 Pins; Manufacturer: Wurth Elektronik; Contact Resistance: 20 mΩ; Insulation Resistance: 1000 MΩ; Pitch: 2.54 mm; Rated Current: 3 A; Working Voltage: 250 V; Withstanding Voltage: 500 V; Manufacturer Part Number: 61202421621; Category: Wire-to-Board Connector; Connectors.Match Code: WR-BHD; ComponentLink1Description: Website Link; ComponentLink1URL: https://www.we-online.com/redexpert/article/61202421621?ad; ComponentLink2Description: Datasheet Link; ComponentLink2URL: https://www.we-online.com/redexpert/spec/61202421621?ad; Mount: Through Hole; Min Operating Temperature: -40 °C; Max Operating Temperature: 105 °C; Packaging: Tray; Length: 38.14 mm; Width: 9.1 mm; Height: 9.1 mm; Gender: Male; Number of Pins: 24; Number of Rows: 2; Orientation: Straight
footprint 61202421621
pins: 1, 2, 3, 4, 5, 6, 7, 8, 9, 10, 11, 12, 13, 14, 15, 16, 17, 18, 19, 20, 21, 22, 23, 24

## 61202421721
designator P?  (value not drawn)
WR-BHD Male Box Header, THT Right Angle, pitch 2.54 mm, 2 Rows, 24 Pins; Manufacturer: Wurth Elektronik; Contact Resistance: 20 mΩ; Insulation Resistance: 1000 MΩ; Pitch: 2.54 mm; Rated Current: 3 A; Working Voltage: 250 V; Withstanding Voltage: 500 V; Manufacturer Part Number: 61202421721; Category: Wire-to-Board Connector; Connectors.Match Code: WR-BHD; ComponentLink1Description: Website Link; ComponentLink1URL: https://www.we-online.com/redexpert/article/61202421721?ad; ComponentLink2Description: Datasheet Link; ComponentLink2URL: https://www.we-online.com/redexpert/spec/61202421721?ad; Mount: Through Hole; Min Operating Temperature: -40 °C; Max Operating Temperature: 105 °C; Packaging: Tray; Length: 38.14 mm; Width: 13.23 mm; Height: 9.1 mm; Gender: Male; Number of Pins: 24; Number of Rows: 2; Orientation: Right Angle
footprint 61202421721
pins: 1, 2, 3, 4, 5, 6, 7, 8, 9, 10, 11, 12, 13, 14, 15, 16, 17, 18, 19, 20, 21, 22, 23, 24

## 61202422021
designator P?  (value not drawn)
WR-BHD Male Box Header, THT Straight, pitch 2.54 mm, 2 Rows, 24 Pins; Manufacturer: Wurth Elektronik; Contact Resistance: 20 mΩ; Insulation Resistance: 1000 MΩ; Pitch: 2.54 mm; Rated Current: 3 A; Working Voltage: 250 V; Withstanding Voltage: 500 V; Manufacturer Part Number: 61202422021; Category: Wire-to-Board Connector; Connectors.Match Code: WR-BHD; ComponentLink1Description: Website Link; ComponentLink1URL: https://www.we-online.com/redexpert/article/61202422021?ad; ComponentLink2Description: Datasheet Link; ComponentLink2URL: https://www.we-online.com/redexpert/spec/61202422021?ad; Mount: Through Hole; Min Operating Temperature: -40 °C; Max Operating Temperature: 105 °C; Packaging: Tray; Length: 49.98 mm; Width: 8.3 mm; Height: 24.5 mm; Gender: Male; Number of Pins: 24; Number of Rows: 2; Orientation: Straight
footprint 61202422021
pins: 1, 2, 3, 4, 5, 6, 7, 8, 9, 10, 11, 12, 13, 14, 15, 16, 17, 18, 19, 20, 21, 22, 23, 24

## 61202422121
designator P?  (value not drawn)
WR-BHD Male Box Header, THT Right Angle, pitch 2.54 mm, 2 Rows, 24 Pins; Manufacturer: Wurth Elektronik; Contact Resistance: 20 mΩ; Insulation Resistance: 1000 MΩ; Pitch: 2.54 mm; Rated Current: 3 A; Working Voltage: 250 V; Withstanding Voltage: 500 V; Manufacturer Part Number: 61202422121; Category: Wire-to-Board Connector; Connectors.Match Code: WR-BHD; ComponentLink1Description: Website Link; ComponentLink1URL: https://www.we-online.com/redexpert/article/61202422121?ad; ComponentLink2Description: Datasheet Link; ComponentLink2URL: https://www.we-online.com/redexpert/spec/61202422121?ad; Mount: Through Hole; Min Operating Temperature: -40 °C; Max Operating Temperature: 105 °C; Packaging: Tray; Length: 49.98 mm; Width: 24.5 mm; Height: 8.3 mm; Gender: Male; Number of Pins: 24; Number of Rows: 2; Orientation: Right Angle
footprint 61202422121
pins: 1, 2, 3, 4, 5, 6, 7, 8, 9, 10, 11, 12, 13, 14, 15, 16, 17, 18, 19, 20, 21, 22, 23, 24

## 61202422821
designator P?  (value not drawn)
WR-BHD Male Box Header, THT Straight, pitch 2.54 mm, 2 Rows, 24 Pins; Manufacturer: Wurth Elektronik; Contact Resistance: 20 mΩ; Insulation Resistance: 1000 MΩ; Pitch: 2.54 mm; Rated Current: 3 A; Working Voltage: 250 V; Withstanding Voltage: 500 V; Manufacturer Part Number: 61202422821; Category: Wire-to-Board Connector; Connectors.Match Code: WR-BHD; ComponentLink1Description: Website Link; ComponentLink1URL: https://www.we-online.com/redexpert/article/61202422821?ad; ComponentLink2Description: Datasheet Link; ComponentLink2URL: https://www.we-online.com/redexpert/spec/61202422821?ad; Mount: Through Hole; Min Operating Temperature: -40 °C; Max Operating Temperature: 105 °C; Packaging: Tray; Length: 49.98 mm; Width: 8.3 mm; Height: 27.8 mm; Gender: Male; Number of Pins: 24; Number of Rows: 2; Orientation: Straight
footprint 61202422821
pins: 1, 2, 3, 4, 5, 6, 7, 8, 9, 10, 11, 12, 13, 14, 15, 16, 17, 18, 19, 20, 21, 22, 23, 24

## 61202422921
designator P?  (value not drawn)
WR-BHD Male Box Header, THT Right Angle, pitch 2.54 mm, 2 Rows, 24 Pins; Manufacturer: Wurth Elektronik; Contact Resistance: 20 mΩ; Insulation Resistance: 1000 MΩ; Pitch: 2.54 mm; Rated Current: 3 A; Working Voltage: 250 V; Withstanding Voltage: 500 V; Manufacturer Part Number: 61202422921; Category: Wire-to-Board Connector; Connectors.Match Code: WR-BHD; ComponentLink1Description: Website Link; ComponentLink1URL: https://www.we-online.com/redexpert/article/61202422921?ad; ComponentLink2Description: Datasheet Link; ComponentLink2URL: https://www.we-online.com/redexpert/spec/61202422921?ad; Mount: Through Hole; Min Operating Temperature: -40 °C; Max Operating Temperature: 105 °C; Packaging: Tray; Length: 49.98 mm; Width: 27.8 mm; Height: 8.3 mm; Gender: Male; Number of Pins: 24; Number of Rows: 2; Orientation: Right Angle
footprint 61202422921
pins: 1, 2, 3, 4, 5, 6, 7, 8, 9, 10, 11, 12, 13, 14, 15, 16, 17, 18, 19, 20, 21, 22, 23, 24

## 61202620621
designator P?  (value not drawn)
WR-BHD Male Box Header, SMT Straight, pitch 2.54 mm, 2 Rows, 26 Pins; Manufacturer: Wurth Elektronik; Contact Resistance: 20 mΩ; Insulation Resistance: 1000 MΩ; Pitch: 2.54 mm; Rated Current: 3 A; Working Voltage: 250 V; Withstanding Voltage: 500 V; Manufacturer Part Number: 61202620621; Category: Wire-to-Board Connector; Connectors.Match Code: WR-BHD; ComponentLink1Description: Website Link; ComponentLink1URL: https://www.we-online.com/redexpert/article/61202620621?ad; ComponentLink2Description: Datasheet Link; ComponentLink2URL: https://www.we-online.com/redexpert/spec/61202620621?ad; Mount: Surface Mount; Min Operating Temperature: -40 °C; Max Operating Temperature: 125 °C; Packaging: Tube; Length: 40.52 mm; Width: 8.8 mm; Height: 9.1 mm; Gender: Male; Number of Pins: 26; Number of Rows: 2; Orientation: Straight
footprint 61202620621
pins: 1, 2, 3, 4, 5, 6, 7, 8, 9, 10, 11, 12, 13, 14, 15, 16, 17, 18, 19, 20, 21, 22, 23, 24, 25, 26

## 61202621621
designator P?  (value not drawn)
WR-BHD Male Box Header, THT Straight, pitch 2.54 mm, 2 Rows, 26 Pins; Manufacturer: Wurth Elektronik; Contact Resistance: 20 mΩ; Insulation Resistance: 1000 MΩ; Pitch: 2.54 mm; Rated Current: 3 A; Working Voltage: 250 V; Withstanding Voltage: 500 V; Manufacturer Part Number: 61202621621; Category: Wire-to-Board Connector; Connectors.Match Code: WR-BHD; ComponentLink1Description: Website Link; ComponentLink1URL: https://www.we-online.com/redexpert/article/61202621621?ad; ComponentLink2Description: Datasheet Link; ComponentLink2URL: https://www.we-online.com/redexpert/spec/61202621621?ad; Mount: Through Hole; Min Operating Temperature: -40 °C; Max Operating Temperature: 105 °C; Packaging: Tray; Length: 40.68 mm; Width: 9.1 mm; Height: 9.1 mm; Gender: Male; Number of Pins: 26; Number of Rows: 2; Orientation: Straight
footprint 61202621621
pins: 1, 2, 3, 4, 5, 6, 7, 8, 9, 10, 11, 12, 13, 14, 15, 16, 17, 18, 19, 20, 21, 22, 23, 24, 25, 26

## 61202621721
designator P?  (value not drawn)
WR-BHD Male Box Header, THT Right Angle, pitch 2.54 mm, 2 Rows, 26 Pins; Manufacturer: Wurth Elektronik; Contact Resistance: 20 mΩ; Insulation Resistance: 1000 MΩ; Pitch: 2.54 mm; Rated Current: 3 A; Working Voltage: 250 V; Withstanding Voltage: 500 V; Manufacturer Part Number: 61202621721; Category: Wire-to-Board Connector; Connectors.Match Code: WR-BHD; ComponentLink1Description: Website Link; ComponentLink1URL: https://www.we-online.com/redexpert/article/61202621721?ad; ComponentLink2Description: Datasheet Link; ComponentLink2URL: https://www.we-online.com/redexpert/spec/61202621721?ad; Mount: Through Hole; Min Operating Temperature: -40 °C; Max Operating Temperature: 105 °C; Packaging: Tray; Length: 40.68 mm; Width: 13.23 mm; Height: 9.1 mm; Gender: Male; Number of Pins: 26; Number of Rows: 2; Orientation: Right Angle
footprint 61202621721
pins: 1, 2, 3, 4, 5, 6, 7, 8, 9, 10, 11, 12, 13, 14, 15, 16, 17, 18, 19, 20, 21, 22, 23, 24, 25, 26

## 61202622021
designator P?  (value not drawn)
WR-BHD Male Box Header, THT Straight, pitch 2.54 mm, 2 Rows, 26 Pins; Manufacturer: Wurth Elektronik; Contact Resistance: 20 mΩ; Insulation Resistance: 1000 MΩ; Pitch: 2.54 mm; Rated Current: 3 A; Working Voltage: 250 V; Withstanding Voltage: 500 V; Manufacturer Part Number: 61202622021; Category: Wire-to-Board Connector; Connectors.Match Code: WR-BHD; ComponentLink1Description: Website Link; ComponentLink1URL: https://www.we-online.com/redexpert/article/61202622021?ad; ComponentLink2Description: Datasheet Link; ComponentLink2URL: https://www.we-online.com/redexpert/spec/61202622021?ad; Mount: Through Hole; Min Operating Temperature: -40 °C; Max Operating Temperature: 105 °C; Packaging: Tray; Length: 52.52 mm; Width: 8.3 mm; Height: 24.5 mm; Gender: Male; Number of Pins: 26; Number of Rows: 2; Orientation: Straight
footprint 61202622021
pins: 1, 2, 3, 4, 5, 6, 7, 8, 9, 10, 11, 12, 13, 14, 15, 16, 17, 18, 19, 20, 21, 22, 23, 24, 25, 26

## 61202622121
designator P?  (value not drawn)
WR-BHD Male Box Header, THT Right Angle, pitch 2.54 mm, 2 Rows, 26 Pins; Manufacturer: Wurth Elektronik; Contact Resistance: 20 mΩ; Insulation Resistance: 1000 MΩ; Pitch: 2.54 mm; Rated Current: 3 A; Working Voltage: 250 V; Withstanding Voltage: 500 V; Manufacturer Part Number: 61202622121; Category: Wire-to-Board Connector; Connectors.Match Code: WR-BHD; ComponentLink1Description: Website Link; ComponentLink1URL: https://www.we-online.com/redexpert/article/61202622121?ad; ComponentLink2Description: Datasheet Link; ComponentLink2URL: https://www.we-online.com/redexpert/spec/61202622121?ad; Mount: Through Hole; Min Operating Temperature: -40 °C; Max Operating Temperature: 105 °C; Packaging: Tray; Length: 52.32 mm; Width: 24.5 mm; Height: 8.3 mm; Gender: Male; Number of Pins: 26; Number of Rows: 2; Orientation: Right Angle
footprint 61202622121
pins: 1, 2, 3, 4, 5, 6, 7, 8, 9, 10, 11, 12, 13, 14, 15, 16, 17, 18, 19, 20, 21, 22, 23, 24, 25, 26